# Altium footprint library Main.PcbLib: 120 footprints (part 3 of 8)
Each footprint in its own frame and in the unit in brackets; x right, y up, seen from the top. Pads: shape width x height; smd on the part's side, far side on the other; paste and mask are expansions set on the pad; w line width, h text height; cw(c..) or ccw(c..) is an arc to the next point about the centre after c.
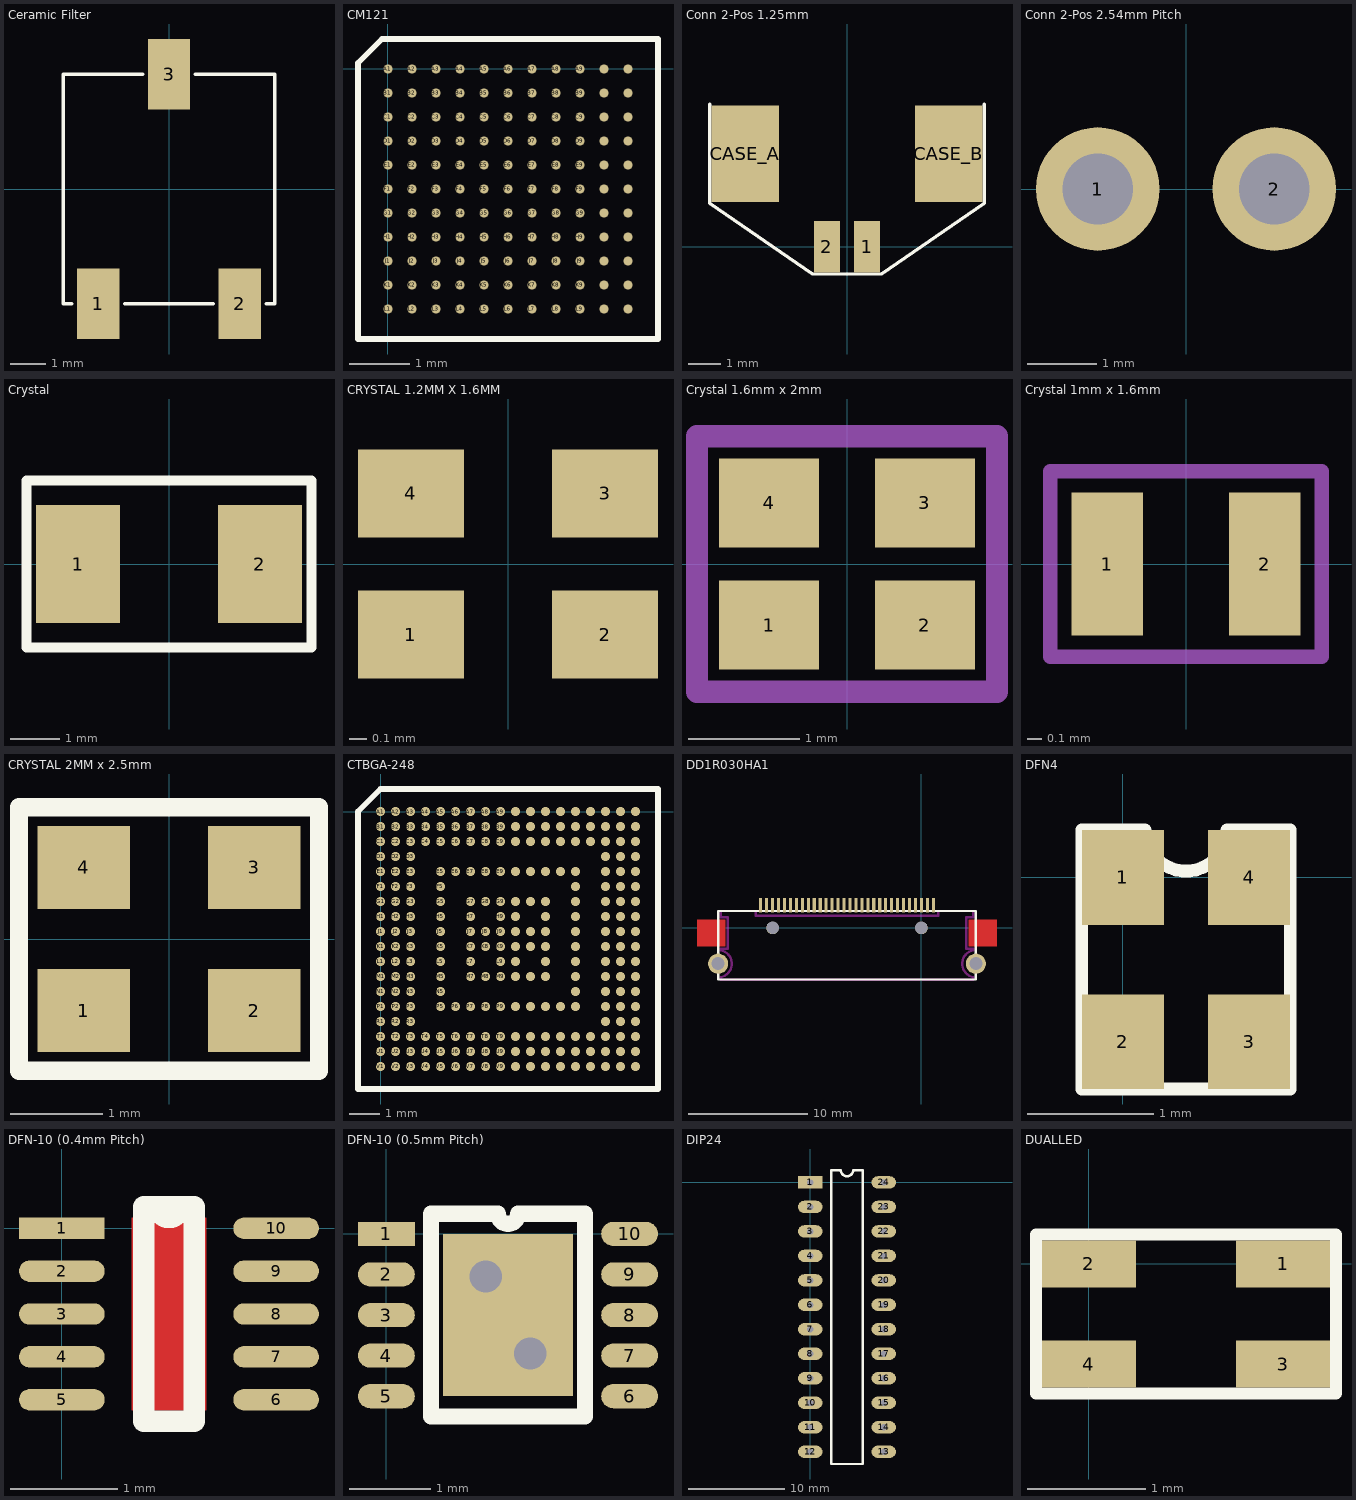
[diagram p2: the footprints below, top view; thin cyan lines are the x and y axes]

## Ceramic Filter [mm]
pads (3):
  rect 1.2x2 smd: 1(-2,-3.25) 2(2,-3.25) 3(0,3.25)
Top Overlay:
  lines w0.102: -2.75,-3.25 -3,-3.25 -3,3.25 -0.75,3.25 ; -1.25,-3.25 1.25,-3.25 ; 0.75,3.25 3,3.25 3,-3.25 2.75,-3.25
3D body: height 4, standoff 0, extent -3,-3.25 3,3.25

## CM121 [mm]
pads (121):
  round 0.15 smd mask+0.051: A1(0,0) A2(0.4,0) A3(0.8,0) A4(1.2,0) A5(1.6,0) A6(2,0) A7(2.4,0) A8(2.8,0) A9(3.2,0) A10(3.6,0) A11(4,0) B1(0,-0.4) B2(0.4,-0.4) B3(0.8,-0.4) B4(1.2,-0.4) B5(1.6,-0.4) B6(2,-0.4) B7(2.4,-0.4) B8(2.8,-0.4) B9(3.2,-0.4) B10(3.6,-0.4) B11(4,-0.4) C1(0,-0.8) C2(0.4,-0.8) C3(0.8,-0.8) C4(1.2,-0.8) C5(1.6,-0.8) C6(2,-0.8) C7(2.4,-0.8) C8(2.8,-0.8) C9(3.2,-0.8) C10(3.6,-0.8) C11(4,-0.8) D1(0,-1.2) D2(0.4,-1.2) D3(0.8,-1.2) D4(1.2,-1.2) D5(1.6,-1.2) D6(2,-1.2) D7(2.4,-1.2) D8(2.8,-1.2) D9(3.2,-1.2) D10(3.6,-1.2) D11(4,-1.2) E1(0,-1.6) E2(0.4,-1.6) E3(0.8,-1.6) E4(1.2,-1.6) E5(1.6,-1.6) E6(2,-1.6) E7(2.4,-1.6) E8(2.8,-1.6) E9(3.2,-1.6) E10(3.6,-1.6) E11(4,-1.6) F1(0,-2) F2(0.4,-2) F3(0.8,-2) F4(1.2,-2) F5(1.6,-2) F6(2,-2) F7(2.4,-2) F8(2.8,-2) F9(3.2,-2) F10(3.6,-2) F11(4,-2) G1(0,-2.4) G2(0.4,-2.4) G3(0.8,-2.4) G4(1.2,-2.4) G5(1.6,-2.4) G6(2,-2.4) G7(2.4,-2.4) G8(2.8,-2.4) G9(3.2,-2.4) G10(3.6,-2.4) G11(4,-2.4) H1(0,-2.8) H2(0.4,-2.8) H3(0.8,-2.8) H4(1.2,-2.8) H5(1.6,-2.8) H6(2,-2.8) H7(2.4,-2.8) H8(2.8,-2.8) H9(3.2,-2.8) H10(3.6,-2.8) H11(4,-2.8) J1(0,-3.2) J2(0.4,-3.2) J3(0.8,-3.2) J4(1.2,-3.2) J5(1.6,-3.2) J6(2,-3.2) J7(2.4,-3.2) J8(2.8,-3.2) J9(3.2,-3.2) J10(3.6,-3.2) J11(4,-3.2) K1(0,-3.6) K2(0.4,-3.6) K3(0.8,-3.6) K4(1.2,-3.6) K5(1.6,-3.6) K6(2,-3.6) K7(2.4,-3.6) K8(2.8,-3.6) K9(3.2,-3.6) K10(3.6,-3.6) K11(4,-3.6) L1(0,-4) L2(0.4,-4) L3(0.8,-4) L4(1.2,-4) L5(1.6,-4) L6(2,-4) L7(2.4,-4) L8(2.8,-4) L9(3.2,-4) L10(3.6,-4) L11(4,-4)
Top Overlay:
  lines w0.102: -0.5,-4.5 4.5,-4.5 4.5,0.5 -0.1,0.5 -0.5,0.1 -0.5,-4.5
3D body: height 1, standoff 0, extent -0.5,-4.5 4.5,0.5

## Conn 2-Pos 1.25mm [mm]
pads (4):
  rect 0.8x1.6 smd: 1(0.625,0) 2(-0.625,0)
  rect 2.1x3 smd: CASE_A(-3.175,2.9) CASE_B(3.175,2.9)
Top Overlay:
  lines w0.102: -4.275,4.45 -4.275,1.35 -1.075,-0.85 1.075,-0.85 4.275,1.35 4.275,4.45
3D body: height 3.45, standoff 0, extent -3.9,0 3.9,4.4

## Conn 2-Pos 2.54mm Pitch [mil]
pads (2):
  round 70 hole 40: 1(-50,0) 2(50,0)
3D body: height 255.91, standoff 0, extent -100.39,125.98 100.39,253.94

## Crystal [mm]
pads (2):
  rect 1.7x2.4 smd: 1(-1.85,0) 2(1.85,0)
Top Overlay:
  lines w0.2: -2.9,-1.7 -2.9,1.7 2.9,1.7 2.9,-1.7 -2.9,-1.7
3D body: height 1.2, standoff 0, extent -2.5,-1.6 2.5,1.6

## CRYSTAL 1.2MM X 1.6MM [mm]
pads (4):
  rect 0.6x0.5 smd: 1(-0.55,-0.4) 2(0.55,-0.4) 3(0.55,0.4) 4(-0.55,0.4)

## Crystal 1.6mm x 2mm [mm]
pads (4):
  rect 0.9x0.8 smd: 1(-0.7,-0.55) 2(0.7,-0.55) 3(0.7,0.55) 4(-0.7,0.55)
Mechanical 29:
  circle w0.254: c-0.7,-0.5 r0.125
  lines w0.2: -1.35,-1.15 -1.35,1.15 1.35,1.15 1.35,-1.15 -1.35,-1.15
  text ".Designator" at -1,-0.075 h0.76
3D body: height 0.5, standoff 0, extent -1,-0.8 1,0.8

## Crystal 1mm x 1.6mm [mm]
pads (2):
  rect 0.5x1 smd: 1(-0.55,0) 2(0.55,0)
Mechanical 29:
  lines w0.102: -0.95,-0.65 0.95,-0.65 0.95,0.65 -0.95,0.65 -0.95,-0.65
  text ".Designator" at -0.5,-0.2 h0.38
3D body: height 0.5, standoff 0, extent -0.8,-0.5 0.8,0.5

## CRYSTAL 2MM x 2.5mm [mm]
pads (4):
  rect 1x0.9 smd: 1(-0.925,-0.775) 2(0.925,-0.775) 3(0.925,0.775) 4(-0.925,0.775)
Top Overlay:
  lines w0.2: -1.625,-1.425 1.625,-1.425 1.625,1.425 -1.625,1.425 -1.625,-1.425
3D body: height 0.55, standoff 0, extent -1.25,-1 1.25,1

## CTBGA-248 [mm]
pads (248):
  round 0.3 smd: A1(0,0) A2(0.5,0) A3(1,0) A4(1.5,0) A5(2,0) A6(2.5,0) A7(3,0) A8(3.5,0) A9(4,0) A10(4.5,0) A11(5,0) A12(5.5,0) A13(6,0) A14(6.5,0) A15(7,0) A16(7.5,0) A17(8,0) A18(8.5,0) B1(0,-0.5) B2(0.5,-0.5) B3(1,-0.5) B4(1.5,-0.5) B5(2,-0.5) B6(2.5,-0.5) B7(3,-0.5) B8(3.5,-0.5) B9(4,-0.5) B10(4.5,-0.5) B11(5,-0.5) B12(5.5,-0.5) B13(6,-0.5) B14(6.5,-0.5) B15(7,-0.5) B16(7.5,-0.5) B17(8,-0.5) B18(8.5,-0.5) C1(0,-1) C2(0.5,-1) C3(1,-1) C4(1.5,-1) C5(2,-1) C6(2.5,-1) C7(3,-1) C8(3.5,-1) C9(4,-1) C10(4.5,-1) C11(5,-1) C12(5.5,-1) C13(6,-1) C14(6.5,-1) C15(7,-1) C16(7.5,-1) C17(8,-1) C18(8.5,-1) D1(0,-1.5) D2(0.5,-1.5) D3(1,-1.5) D16(7.5,-1.5) D17(8,-1.5) D18(8.5,-1.5) E1(0,-2) E2(0.5,-2) E3(1,-2) E5(2,-2) E6(2.5,-2) E7(3,-2) E8(3.5,-2) E9(4,-2) E10(4.5,-2) E11(5,-2) E12(5.5,-2) E13(6,-2) E14(6.5,-2) E16(7.5,-2) E17(8,-2) E18(8.5,-2) F1(0,-2.5) F2(0.5,-2.5) F3(1,-2.5) F5(2,-2.5) F14(6.5,-2.5) F16(7.5,-2.5) F17(8,-2.5) F18(8.5,-2.5) G1(0,-3) G2(0.5,-3) G3(1,-3) G5(2,-3) G7(3,-3) G8(3.5,-3) G9(4,-3) G10(4.5,-3) G11(5,-3) G12(5.5,-3) G14(6.5,-3) G16(7.5,-3) G17(8,-3) G18(8.5,-3) H1(0,-3.5) H2(0.5,-3.5) H3(1,-3.5) H5(2,-3.5) H7(3,-3.5) H9(4,-3.5) H10(4.5,-3.5) H12(5.5,-3.5) H14(6.5,-3.5) H16(7.5,-3.5) H17(8,-3.5) H18(8.5,-3.5) J1(0,-4) J2(0.5,-4) J3(1,-4) J5(2,-4) J7(3,-4) J8(3.5,-4) J9(4,-4) J10(4.5,-4) J11(5,-4) J12(5.5,-4) J14(6.5,-4) J16(7.5,-4) J17(8,-4) J18(8.5,-4) K1(0,-4.5) K2(0.5,-4.5) K3(1,-4.5) K5(2,-4.5) K7(3,-4.5) K8(3.5,-4.5) K9(4,-4.5) K10(4.5,-4.5) K11(5,-4.5) K12(5.5,-4.5) K14(6.5,-4.5) K16(7.5,-4.5) K17(8,-4.5) K18(8.5,-4.5) L1(0,-5) L2(0.5,-5) L3(1,-5) L5(2,-5) L7(3,-5) L9(4,-5) L10(4.5,-5) L12(5.5,-5) L14(6.5,-5) L16(7.5,-5) L17(8,-5) L18(8.5,-5) M1(0,-5.5) M2(0.5,-5.5) M3(1,-5.5) M5(2,-5.5) M7(3,-5.5) M8(3.5,-5.5) M9(4,-5.5) M10(4.5,-5.5) M11(5,-5.5) M12(5.5,-5.5) M14(6.5,-5.5) M16(7.5,-5.5) M17(8,-5.5) M18(8.5,-5.5) N1(0,-6) N2(0.5,-6) N3(1,-6) N5(2,-6) N14(6.5,-6) N16(7.5,-6) N17(8,-6) N18(8.5,-6) P1(0,-6.5) P2(0.5,-6.5) P3(1,-6.5) P5(2,-6.5) P6(2.5,-6.5) P7(3,-6.5) P8(3.5,-6.5) P9(4,-6.5) P10(4.5,-6.5) P11(5,-6.5) P12(5.5,-6.5) P13(6,-6.5) P14(6.5,-6.5) P16(7.5,-6.5) P17(8,-6.5) P18(8.5,-6.5) R1(0,-7) R2(0.5,-7) R3(1,-7) R16(7.5,-7) R17(8,-7) R18(8.5,-7) T1(0,-7.5) T2(0.5,-7.5) T3(1,-7.5) T4(1.5,-7.5) T5(2,-7.5) T6(2.5,-7.5) T7(3,-7.5) T8(3.5,-7.5) T9(4,-7.5) T10(4.5,-7.5) T11(5,-7.5) T12(5.5,-7.5) T13(6,-7.5) T14(6.5,-7.5) T15(7,-7.5) T16(7.5,-7.5) T17(8,-7.5) T18(8.5,-7.5) U1(0,-8) U2(0.5,-8) U3(1,-8) U4(1.5,-8) U5(2,-8) U6(2.5,-8) U7(3,-8) U8(3.5,-8) U9(4,-8) U10(4.5,-8) U11(5,-8) U12(5.5,-8) U13(6,-8) U14(6.5,-8) U15(7,-8) U16(7.5,-8) U17(8,-8) U18(8.5,-8) V1(0,-8.5) V2(0.5,-8.5) V3(1,-8.5) V4(1.5,-8.5) V5(2,-8.5) V6(2.5,-8.5) V7(3,-8.5) V8(3.5,-8.5) V9(4,-8.5) V10(4.5,-8.5) V11(5,-8.5) V12(5.5,-8.5) V13(6,-8.5) V14(6.5,-8.5) V15(7,-8.5) V16(7.5,-8.5) V17(8,-8.5) V18(8.5,-8.5)
Top Overlay:
  lines w0.2: -0.75,-9.25 -0.75,0 0,0.75 9.25,0.75 9.25,-9.25 -0.75,-9.25
3D body: height 1, standoff 0, extent -0.75,-9.25 9.25,0.75

## DD1R030HA1 [mm]
pads (34):
  rect 0.26x1.2 smd: 1(-13.5,1.9) 2(-13,1.9) 3(-12.5,1.9) 4(-12,1.9) 5(-11.5,1.9) 6(-11,1.9) 7(-10.5,1.9) 8(-10,1.9) 9(-9.5,1.9) 10(-9,1.9) 11(-8.5,1.9) 12(-8,1.9) 13(-7.5,1.9) 14(-7,1.9) 15(-6.5,1.9) 16(-6,1.9) 17(-5.5,1.9) 18(-5,1.9) 19(-4.5,1.9) 20(-4,1.9) 21(-3.5,1.9) 22(-3,1.9) 23(-2.5,1.9) 24(-2,1.9) 25(-1.5,1.9) 26(-1,1.9) 27(-0.5,1.9) 28(0,1.9) 29(0.5,1.9) 30(1,1.9)
  round 1.7 hole 1.1: ""(-17.075,-3) ""(4.575,-3)
  round 1.05 hole 1.05: ""(-12.5,0) ""(0,0)
Top Layer:
  rectangle: 3.95,-1.575 6.35,0.725
  rectangle: -18.85,-1.575 -16.45,0.725
Top Layer keep-out:
  lines w0.2: -16.854,-1.871 cw(c-17.075,-3) -16.849,-4.128 ; -16.85,-4.125 -16.85,-4.35 4.35,-4.35 4.35,-4.125 ; -16.85,-1.875 -16.85,-1.75 -16.275,-1.75 -16.275,0.9 -16.85,0.9 -16.85,1.425 -13.925,1.425 -13.925,1.025 1.425,1.025 1.425,1.425 4.35,1.425 4.35,0.9 3.775,0.9 3.775,-1.75 4.35,-1.75 4.35,-1.875 ; 4.349,-4.128 cw(c4.575,-3) 4.354,-1.871
Top Overlay:
  lines w0.2: -17.05,-4.325 -17.05,1.425 4.55,1.425 4.55,-4.325 -17.05,-4.325

## DFN4 [mm]
pads (4):
  rect 0.65x0.75 smd: 1(0,0) 2(0,-1.3) 3(1,-1.3) 4(1,0)
Top Overlay:
  lines w0.102: 0.825,0.375 cw(c0.5,0.375) 0.175,0.375 -0.325,0.375 -0.325,-1.675 1.325,-1.675 1.325,0.375 0.825,0.375 ; 0.825,0.375 0.825,0.375
3D body: height 0.7, standoff 0, extent -0.3,-1.65 1.3,0.35

## DFN-10 (0.4mm Pitch) [mm]
pads (10):
  rect 0.8x0.2 smd: 1(0,0)
  oval 0.8x0.2 smd: 2(0,-0.4) 3(0,-0.8) 4(0,-1.2) 5(0,-1.6) 6(2,-1.6) 7(2,-1.2) 8(2,-0.8) 9(2,-0.4) 10(2,0)
Top Layer:
  rectangle: 0.65,-1.7 1.35,0.1
Top Overlay:
  lines w0.2: 0.765,-1.8 0.765,0.2 1.1,0.2 cw(c1,0.2) 0.9,0.2 1.235,0.2 1.235,-1.8 0.765,-1.8
3D body: height 0.9, standoff 0.05, extent 0,-1.8 2,0.2

## DFN-10 (0.5mm Pitch) [mm]
pads (11):
  rect 0.7x0.3 smd: 1(0,0)
  oval 0.7x0.3 smd: 2(0,-0.5) 3(0,-1) 4(0,-1.5) 5(0,-2) 6(3,-2) 7(3,-1.5) 8(3,-1) 9(3,-0.5) 10(3,0)
  rect 1.6x2 smd: ""(1.5,-1)
via 1.775,-1.475 diameter 1 hole 0.4
via 1.225,-0.525 diameter 1 hole 0.4
Top Overlay:
  lines w0.2: 0.55,-2.25 2.45,-2.25 2.45,0.25 1.625,0.25 cw(c1.5,0.25) 1.375,0.25 0.55,0.25 0.55,-2.25

## DIP24 [mm]
pads (24):
  rect 2.54x1.27 hole 0.635: 1(0,0)
  oval 2.54x1.27 hole 0.635: 2(0,-2.54) 3(0,-5.08) 4(0,-7.62) 5(0,-10.16) 6(0,-12.7) 7(0,-15.24) 8(0,-17.78) 9(0,-20.32) 10(0,-22.86) 11(0,-25.4) 12(0,-27.94) 13(7.62,-27.94) 14(7.62,-25.4) 15(7.62,-22.86) 16(7.62,-20.32) 17(7.62,-17.78) 18(7.62,-15.24) 19(7.62,-12.7) 20(7.62,-10.16) 21(7.62,-7.62) 22(7.62,-5.08) 23(7.62,-2.54) 24(7.62,0)
Top Overlay:
  lines w0.254: 2.159,-29.21 5.461,-29.21 5.461,1.27 4.445,1.27 cw(c3.81,1.27) 3.175,1.27 2.159,1.27 2.159,-29.21

## DUALLED [mm]
pads (4):
  rect 0.8x0.4 smd: 1(1.65,0) 2(0,0) 3(1.65,-0.85) 4(0,-0.85)
Top Overlay:
  lines w0.102: -0.45,-1.1 -0.45,0.25 2.1,0.25 2.1,-1.1 -0.45,-1.1
3D body: height 0.18, standoff 0, extent 0.025,-1.05 1.625,0.2
3D body: height 0.55, standoff 0, extent 0.275,-1.025 1.375,0.175